# Altium schematic symbol library 70AAJ-5-M0-ND.SchLib: 1 symbol
Pins are listed as number, name and electrical type; pins without a type are passive.

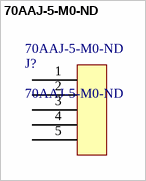
[diagram p0: symbol 70AAJ-5-M0-ND]

## 70AAJ-5-M0-ND
designator J?
Butterfly connector; Manufacturer: Bourns; Gender: Male; Max Current Rating: 3A; Number of Batteries: 5; Number of Ports: 1; Voltage Rating (DC): 60V; Pitch: 2.54mm; Supplier 1: Digi-Key; Manufacturer Part Number: 70AAJ-5-M0; Stock 1: 11888; Pricing 1: 1=1.89, 24=1.715, 48=1.61, 72=1.54, 120=1.47, 264=1.33, 504=1.225, 1008=1.05, 2520=0.98 (USD); Mount: Surface Mount; Contact Material: Copper Alloy; Contact Plating: Gold; Material: Copper Alloy; Number of Terminals: 5; Housing Material: Thermoplastic; Min Operating Temperature: -55°C; Max Operating Temperature: 125°C; Packaging: Rail/Tube; Package Quantity: 48; Termination: Solder; Number of Rows: 1; Number of Contacts: 5; Orientation: Straight; Voltage Rating: 60V; Length: 12.62mm; Depth: 8.48mm; Radiation Hardening: No; REACH SVHC: No SVHC; Lead Free: Lead Free; ComponentLink1URL: http://www.bourns.com/pdfs/70AAM.pdf?src-supplier=Avnet; ComponentLink1Description: http://www.bourns.com/pdfs/70AAM.pdf?src-supplier=Avnet; ComponentLink2URL: https://www.bourns.com/docs/Product-Datasheets/70AAM.pdf?src-supplier=Digi-Key; ComponentLink2Description: https://www.bourns.com/docs/Product-Datasheets/70AAM.pdf?src-supplier=Digi-Key; ComponentLink3URL: http://www.bourns.com/data/global/pdfs/70aam.pdf?src-supplier=Avnet+Europe; ComponentLink3Description: http://www.bourns.com/data/global/pdfs/70aam.pdf?src-supplier=Avnet+Europe; ComponentLink4URL: http://www.farnell.com/datasheets/2360303.pdf?src-supplier=Element14; ComponentLink4Description: http://www.farnell.com/datasheets/2360303.pdf?src-supplier=Element14; Supplier Part Number 1: 70AAJ-5-M0-ND
footprint 70AAJ-5-M0-ND
pins: 1, 2, 3, 4, 5